# EAGLE library part SRB-MX146 (library SRB)
2m/VHF transmitter module
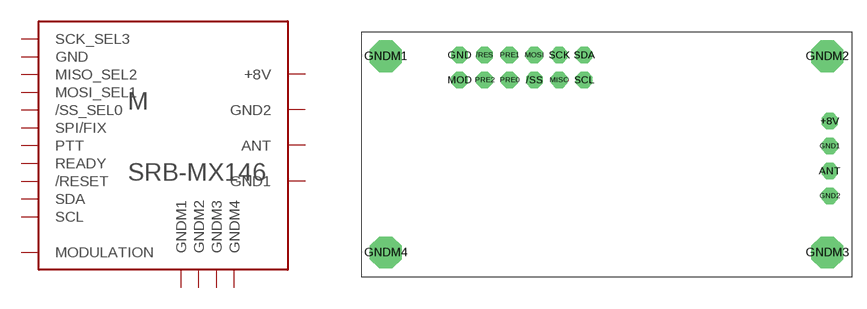
[diagram p0: symbol with the pads of SRB-MX146; footprint SRB-MX146]

Designator prefix M

## SRB-MX146  [SRB-MX146]
+8V  +8V  pwr
/RES  /RESET  in
/SS  /SS_SEL0  in
ANT  ANT
GND  GND  pwr
GND1  GND1  pwr
GND2  GND2  pwr
GNDM1  GNDM1  pwr
GNDM2  GNDM2  pwr
GNDM3  GNDM3  pwr
GNDM4  GNDM4  pwr
MISO  MISO_SEL2
MOD  MODULATION  in
MOSI  MOSI_SEL1
PRE0  SPI/FIX  in
PRE1  PTT  in
PRE2  READY  in
SCK  SCK_SEL3  in
SCL  SCL  in
SDA  SDA  in

## Footprint SRB-MX146 (pad centres in mm)
drill 0.8 pad 1.676 octagon: +8V 22.755,3.389; /RES -12.435,10.125; /SS -7.355,7.585; ANT 22.755,-1.691; GND -14.975,10.125; GND1 22.755,0.849; GND2 22.755,-4.231; MISO -4.815,7.585; MOD -14.975,7.585; MOSI -7.355,10.125; PRE0 -9.895,7.585; PRE1 -9.895,10.125; PRE2 -12.435,7.585; SCK -4.815,10.125; SCL -2.275,7.585; SDA -2.275,10.125
drill 2.2 octagon: GNDM1 -22.5,10; GNDM2 22.5,10; GNDM3 22.5,-10; GNDM4 -22.5,-10